# EAGLE library part OPTICAL-TSL2561T(6P-3.8X2.6MM) (library OPL-sensor)
314020025
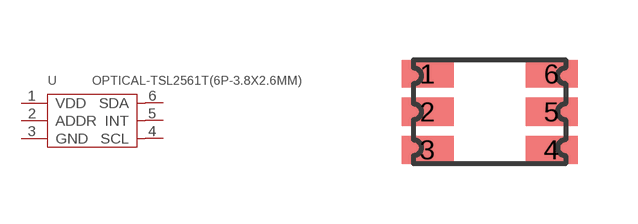
[diagram p6: symbol with the pads of TMB6-1.55-3.8X2.6MM; footprint TMB6-1.55-3.8X2.6MM]

Designator prefix U

## OPTICAL-TSL2561T(6P-3.8X2.6MM)  [TMB6-1.55-3.8X2.6MM]
1  VDD  sup
2  ADDR  in
3  GND  sup
4  SCL  in
5  INT  out
6  SDA

## Footprint TMB6-1.55-3.8X2.6MM (pad centres in mm)
smd 1.3 x 0.7: 1 -1.55,0.95; 2 -1.55,0; 3 -1.55,-0.95; 4 1.55,-0.95; 5 1.55,0; 6 1.55,0.95